# EAGLE library part RJ45 (library 000_eigene_Bauteile)
TRJ0011BA von TRXCOM
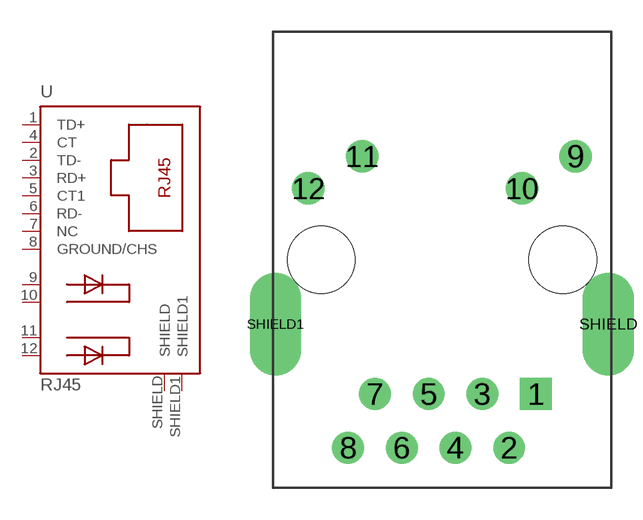
[diagram p3: symbol with the pads of TRJ0011BA; footprint TRJ0011BA]

Designator prefix -

## RJ45 (J: TRJ0011)  [TRJ0011BA]
1  TD+
2  TD-
3  RD+
4  CT
5  CT1
6  RD-
7  NC  nc
8  GROUND/CHS
9  A
10  C
11  C1
12  A1
SHIELD  SHIELD
SHIELD1  SHIELD1

## Footprint TRJ0011BA (pad centres in mm)
drill 1 square: 1 4.445,-6.35
drill 1: 2 3.175,-8.89; 3 1.905,-6.35; 4 0.635,-8.89; 5 -0.635,-6.35; 6 -1.905,-8.89; 7 -3.175,-6.35; 8 -4.445,-8.89
drill 1.02: 9 6.324,4.901; 10 3.784,3.381; 11 -3.786,4.901; 12 -6.326,3.381
drill 1.63 long: SHIELD 7.874,-3.049; SHIELD1 -7.876,-3.049
hole 3.2 at 5.714,0.001
hole 3.2 at -5.716,0.001